# EAGLE library part 6PIN (library con-yaala)
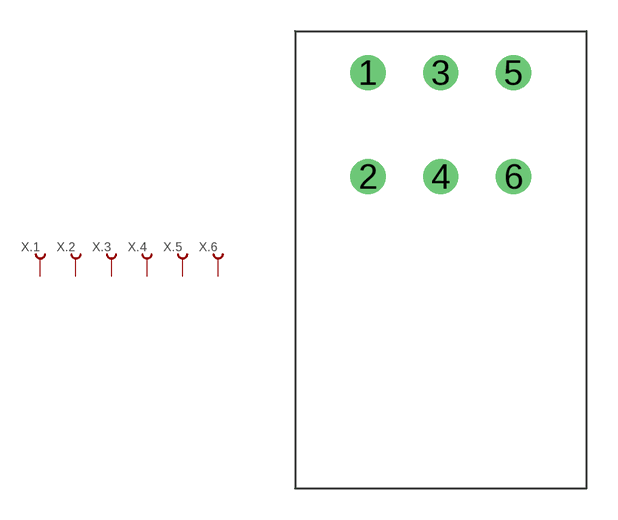
[diagram p1: symbol with the pads of MDF6-6DP-3.5DS; footprint MDF6-6DP-3.5DS]

Designator prefix X; gates .1=KONTAKT .2=KONTAKT .3=KONTAKT .4=KONTAKT .5=KONTAKT .6=KONTAKT

## 6PIN_MDF6-6DP-3.5DS  [MDF6-6DP-3.5DS]
1  .1:1  pas
2  .2:1  pas
3  .3:1  pas
4  .4:1  pas
5  .5:1  pas
6  .6:1  pas

## Footprint MDF6-6DP-3.5DS (pad centres in mm)
Datasheet <http://www.mouser.com/ds/2/185/e54700700-35307.pdf>
drill 1.1 pad 1.7: 1 0,0; 2 0,-5; 3 3.5,0; 4 3.5,-5; 5 7,0; 6 7,-5